# EAGLE library part HIGH_SIDE_SWITCH (library wsn)
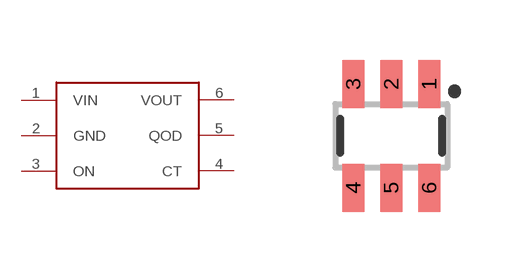
[diagram p66: symbol with the pads of SOT23-6; footprint SOT23-6]

Designator prefix -

## HIGH_SIDE_SWITCH  [SOT23-6]
1  VIN
2  GND
3  ON
4  CT
5  QOD
6  VOUT

## Footprint SOT23-6 (pad centres in mm)
SOT23-6 Specifications: Pin count: 6 Example device(s): MCP4725
smd 0.55 x 1.2: 1 0.95,1.3; 2 0,1.3; 3 -0.95,1.3; 4 -0.95,-1.3; 5 0,-1.3; 6 0.95,-1.3